# Altium schematic symbol library DIODE - SMBJ48D-M31.SchLib: 1 symbol
Pins are listed as number, name and electrical type; pins without a type are passive.

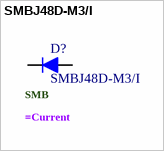
[diagram p0: symbol SMBJ48D-M3/I]

## SMBJ48D-M3/I
designator D?  .Case/Package: SMB
Trans Voltage Suppressor Diode, 600W, 48V V(RWM), Unidirectional, 1 Element, Silicon, DO-214AA; Manufacturer: Vishay; Breakdown Voltage: 56.1V; Clamping Voltage: 76.3V; Max Breakdown Voltage: 58.1V; Max Power Dissipation: 1W; Min Breakdown Voltage: 54.1V; Number of Elements: 1; Peak Pulse Current: 7.9A; Power Line Protection: No; Supplier: Mouser; Supplier Part Number: 78-SMBJ48D-M3I; Manufacturer Part Number: SMBJ48D-M3/I; RoHS: Compliant; Category: TVS Diodes; Stock: 7114; Pricing: 1=0,34, 10=0,24, 50=0,24, 100=0,091, 1000=0,091, 10000=0,073 (USD); Case/Package: SMB; China RoHS: Non-Compliant; Composition: Zener; Lifecycle Status: Production; Max Operating Temperature: 150°C; Min Operating Temperature: -55°C; Mounting Technology: Surface Mount; Number of Terminals: 2; Number of Unidirectional Channels: 1; Packaging: Tape & Reel (TR); Peak Pulse Power: 600W; Polarity: Unidirectional; REACH SVHC: No; Reverse Standoff Voltage: 48V; ComponentLink1URL: https://datasheet.octopart.com:443/SMBJ48D-M3-I-Vishay-datasheet-168801400.pdf?src-supplier=IHS; ComponentLink1Description: https://datasheet.octopart.com:443/SMBJ48D-M3-I-Vishay-datasheet-168801400.pdf?src-supplier=IHS; ComponentLink2URL: https://datasheet.octopart.com:443/SMBJ48D-M3-I-Vishay-datasheet-141892618.pdf?src-supplier=Future+Electronics; ComponentLink2Description: https://datasheet.octopart.com:443/SMBJ48D-M3-I-Vishay-datasheet-141892618.pdf?src-supplier=Future+Electronics; ComponentLink3URL: http://sigma.octopart.com:80/rohs_statement/Vishay-company-15.pdf?src-supplier=Compliance+Statements; ComponentLink3Description: http://sigma.octopart.com:80/rohs_statement/Vishay-company-15.pdf?src-supplier=Compliance+Statements; Supplier 1: Mouser; Supplier Part Number 1: 78-SMBJ48D-M3I; .Current: =Current
footprint DDO-214AA (SMBJ) - VISHAY (Molded Diode, 2-Leads, Body 4,31x3,62mm, IPC Medium Density)
pins: 1, 2